# EAGLE library part MEZZANINE_PEAK (library mezzanine_library)
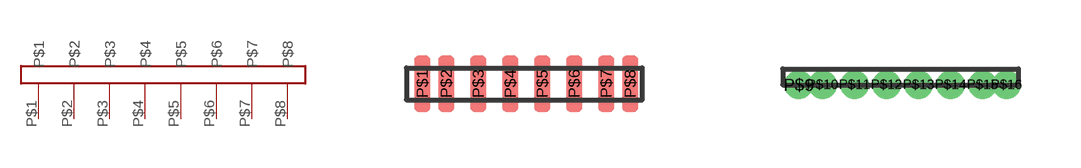
[diagram p0: symbol with the pads of MEZZANINE_PADS; footprints MEZZANINE_PADS, MEZZANINE_CASTELLATED]

Designator prefix -

## MEZZANINE_PEAK  [MEZZANINE_PADS]
P$1  P$1
P$2  P$2
P$3  P$3
P$4  P$4
P$5  P$5
P$6  P$6
P$7  P$7
P$8  P$8

## MEZZANINE_PEAK_CASTELLATED  [MEZZANINE_CASTELLATED]
P$9  P$1
P$10  P$2
P$11  P$3
P$12  P$4
P$13  P$5
P$14  P$6
P$15  P$7
P$16  P$8

## Footprint MEZZANINE_PADS (pad centres in mm)
smd 0.4 x 1.4: P$1 -2,0.4; P$2 -1.4,0.4; P$3 -0.6,0.4; P$4 0.2,0.4; P$5 1,0.4; P$6 1.8,0.4; P$7 2.6,0.4; P$8 3.2,0.4

## Footprint MEZZANINE_CASTELLATED (pad centres in mm)
drill 0.2 pad 0.406: P$9 -5.1,1.3; P$10 -4.5,1.3; P$11 -3.7,1.3; P$12 -2.9,1.3; P$13 -2.1,1.3; P$14 -1.3,1.3; P$15 -0.5,1.3; P$16 0.1,1.3